# Altium schematic symbol library CAP.SchLib: 90 symbols
Pins are listed as number, name and electrical type; pins without a type are passive.

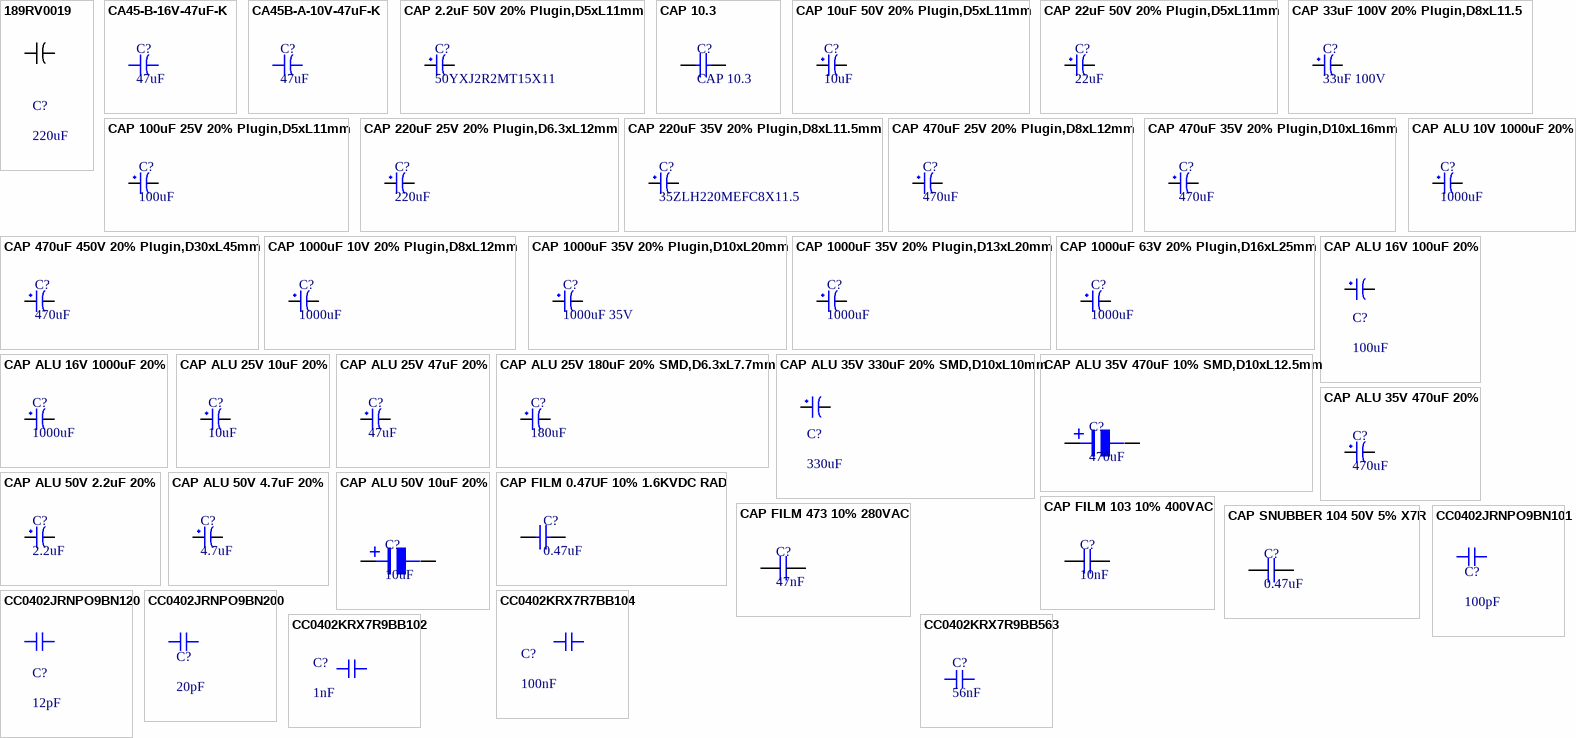
[diagram p0: symbols 189RV0019 to CC0402KRX7R9BB563]

## 189RV0019
designator C?, comment 220uF
220uF 35V 600mA@100KHz 160mΩ@100KHz ±20% SMD,D6.3xL7.7mm Aluminum Electrolytic Capacitors - SMD ROHS; Manufacturer: KNSCHA; Mfr.Part #: 189RV0019; Package: SMD,D6.3xL7.7mm; LCSC Part #: C7471881
footprint SMD,D6.3xL7.7mm
pins: 1, 2

## CA45-B-16V-47uF-K
designator C?, comment 47uF
47uF 16V 3Ω@100kHz ±10% CASE-B-3528-19(mm) Tantalum Capacitors ROHS; Manufacturer: CEC(Zhenhua XinYun); Mfr.Part #: CA45-B-16V-47uF-K; Package: CASE-B-3528-19(mm); LCSC Part 3: C136751
footprint CASE-B-3528-19(mm)
pins: 1, 2

## CA45B-A-10V-47uF-K
designator C?, comment 47uF
47uF 10V ±10% CASE-A-3216-16(mm) Tantalum Capacitors ROHS; Manufacturer: CEC(Zhenhua XinYun); Mfr.Part #: CA45B-A-10V-47uF-K; Package: CASE-A-3216-16(mm); LCSC Part 3: C41415735
footprint CASE-A-3216-18(mm)
pins: 1, 2

## CAP 2.2uF 50V 20% Plugin,D5xL11mm
designator C?, comment 50YXJ2R2MT15X11
2.2uF 50V ±20% Plugin,D5xL11mm Aluminum Electrolytic Capacitors - Leaded ROHS; Chung_Loai: Cắm; Don_Vi: Con; So_Chan: 2; Ten_Linh_Kien: Tụ Hóa 1uF 50V 5x11MM; Ma_Hang: MH001355; Kieu_Chan: *
footprint CAP-PLUGIN,D5xL11mm
pins: 1, 2

## CAP 10.3
designator C?
Chung_Loai: Dán; Don_Vi: Con; So_Chan: 2; Ten_Linh_Kien: Tụ 0603 101-0.1nF 10% 50V; Ma_Hang: MH004565; Kieu_Chan: *
footprint CAP-10.3
pins: 1, 2

## CAP 10uF 50V 20% Plugin,D5xL11mm
designator C?, comment 10uF
10uF 50V ±20% Plugin,D5xL11mm Aluminum Electrolytic Capacitors - Leaded ROHS; Manufacturer: AISHI(Aihua Group); Mfr.Part #: ERS1HM100D11OT; Name: CAP 10uF 50V 20% Plugin,D5xL11mm; So_Chan_Cam: 2; So_Chan_Dan: 0; Package: Plugin,D5xL11mm
footprint PLUGIN,D5xL11mm
pins: 1, 2

## CAP 22uF 50V 20% Plugin,D5xL11mm
designator C?, comment 22uF
22uF 50V ±20% Plugin,D5xL11mm Aluminum Electrolytic Capacitors - Leaded ROHS; Manufacturer: Rubycon; Mfr.Part #: 50YXJ22M5X11; Name: CAP 22uF 50V 20% Plugin,D5xL11mm; So_Chan_Cam: 2; So_Chan_Dan: 0; Package: Plugin,D5xL11mm
footprint PLUGIN,D5xL11mm
pins: 1, 2

## CAP 33uF 100V 20% Plugin,D8xL11.5
designator C?, comment 33uF 100V
33uF 100V ±20% 140mA@120Hz Plugin,D8xL11.5mm Aluminum Electrolytic Capacitors - Leaded ROHS; Manufacturer: Rubycon; Mfr.Part #: 100PX33MEFC8X11.5; Name: CAP 33uF 100V 20% Plugin,D8xL11.5; So_Chan_Dan: 0; So_Chan_Cam: 2; Package: Plugin,D8xL11.5mm
footprint Plugin,D8xL11.5mm
pins: 1, 2

## CAP 100uF 25V 20% Plugin,D5xL11mm
designator C?, comment 100uF
100uF 25V ±20% Plugin,D5xL11mm Aluminum Electrolytic Capacitors - Leaded ROHS; Manufacturer: Rubycon; Mfr.Part #: 25YXJ100MT15X11; Name: CAP 100uF 25V 20% Plugin,D5xL11mm; So_Chan_Cam: 2; So_Chan_Dan: 0; Package: Plugin,D5xL11mm
footprint PLUGIN,D5xL11mm
pins: 1, 2

## CAP 220uF 25V 20% Plugin,D6.3xL12mm
designator C?, comment 220uF
220uF 25V ±20% Plugin,D6.3xL12mm Aluminum Electrolytic Capacitors - Leaded ROHS; Manufacturer: AISHI(Aihua Group); Mfr.Part #: EGH1EM221E12OT; Name: CAP 220uF 25V 20% Plugin,D6.3xL12mm; So_Chan_Cam: 2; So_Chan_Dan: 0; Package: Plugin,D6.3xL12mm
footprint PLUGIN,D6.3xL12mm
pins: 1, 2

## CAP 220uF 35V 20% Plugin,D8xL11.5mm
designator C?, comment 35ZLH220MEFC8X11.5
220uF 35V 472.5mA@120Hz ±20% Plugin,D8xL11.5mm Aluminum Electrolytic Capacitors - Leaded ROHS; Chung_Loai: Cắm; Don_Vi: Con; So_Chan: 2; Ten_Linh_Kien: Tụ Hóa 1uF 50V 5x11MM; Ma_Hang: MH001355; Kieu_Chan: *
footprint Plugin,D8xL11.5mm
pins: 1, 2

## CAP 470uF 25V 20% Plugin,D8xL12mm
designator C?, comment 470uF
470uF 25V ±20% Plugin,D8xL12mm Aluminum Electrolytic Capacitors - Leaded ROHS; Manufacturer: CX(Dongguan Chengxing Elec); Mfr.Part #: KM477M025F12RR0VH2FP0; Name: CAP 470uF 25V 20% Plugin,D8xL12mm; So_Chan_Dan: 0; So_Chan_Cam: 2; Package: Plugin,D8xL12mm
footprint Plugin,D8xL12mm
pins: 1, 2

## CAP 470uF 35V 20% Plugin,D10xL16mm
designator C?, comment 470uF
470uF 35V ±20% Plugin,D10xL16mm Aluminum Electrolytic Capacitors - Leaded ROHS; Manufacturer: Rubycon; Mfr.Part #: 35YXJ470M10x16; Name: CAP 470uF 35V 20% Plugin,D10xL16mm; So_Chan_Dan: 0; So_Chan_Cam: 2; Package: Plugin,D10xL16mm
footprint Plugin,D10xL16mm
pins: 1, 2

## CAP 470uF 450V 20% Plugin,D30xL45mm
designator C?, comment 470uF
470uF 450V 2.05A@120Hz ±20% 10mm Plugin,D30xL45mm Horn-Type Electrolytic Capacitors ROHS; Manufacturer: Rubycon; Mfr.Part #: 450MXH470MEFCSN30X45; Name: CAP 470uF 450V 20% Plugin,D30xL45mm; So_Chan_Dan: 0; So_Chan_Cam: 2; Package: Plugin,D30xL45mm
footprint Plugin,D30xL45mm
pins: 1, 2

## CAP 1000uF 10V 20% Plugin,D8xL12mm
designator C?, comment 1000uF
1000uF 10V ±20% 600mA@10kHz Plugin,D8xL12mm Aluminum Electrolytic Capacitors - Leaded ROHS; Manufacturer: Rubycon; Mfr.Part #: 10PX1000MEFC8X11.5; Name: CAP 1000uF 10V 20% Plugin,D8xL12mm; So_Chan_Dan: 0; So_Chan_Cam: 2; Package: Plugin,D8xL12mm
footprint Plugin,D8xL12mm
footprint Plugin,D8xL12mm-SIDE
pins: 1, 2

## CAP 1000uF 35V 20% Plugin,D10xL20mm
designator C?, comment 1000uF 35V
1000uF 35V ±20% 865mA@120Hz Plugin,D10xL20mm Aluminum Electrolytic Capacitors - Leaded ROHS; Manufacturer: Rubycon; Mfr.Part #: 35PX1000MEFC10X20; Name: CAP 1000uF 35V 20% Plugin,D10xL20mm; So_Chan_Dan: 0; So_Chan_Cam: 2; Package: Plugin,D10xL20mm
footprint Plugin,D10xL20mm
footprint Plugin,D13xL26mm
pins: 1, 2

## CAP 1000uF 35V 20% Plugin,D13xL20mm
designator C?, comment 1000uF
1000uF 35V ±20% Plugin,D13xL20mm Aluminum Electrolytic Capacitors - Leaded ROHS; Manufacturer: CX(Dongguan Chengxing Elec); Mfr.Part #: KM108M035J20RR0VH2FP0; Name: CAP 1000uF 35V 20% Plugin,D13xL20mm; So_Chan_Dan: 0; So_Chan_Cam: 2; Package: Plugin,D13xL20mm
footprint Plugin,D13xL20mm
footprint Plugin,D13xL20mm-SIDE
pins: 1, 2

## CAP 1000uF 63V 20% Plugin,D16xL25mm
designator C?, comment 1000uF
1000uF 63V ±20% Plugin,D16xL25mm Aluminum Electrolytic Capacitors - Leaded ROHS; Manufacturer: Rubycon; Mfr.Part #: 63YXJ1000M16X25; Name: CAP 1000uF 63V 20% Plugin,D16xL25mm; So_Chan_Dan: 0; So_Chan_Cam: 2; Package: Plugin,D16xL25mm
footprint PLUGIN,D16xL25mm
pins: 1, 2

## CAP ALU 10V 1000uF 20%
designator C?, comment 1000uF
1000uF 10V ±20 SMD,D10xL10.5mm Aluminum Electrolytic Capacitors - SMD ROHS; Manufacturer: Changzhou Huawei Elec; Mfr.Part #: VT1A102MG105000CE0; Name: CAP ALU 10V 1000uF 20%; So_Chan_Dan: 2; So_Chan_Cam: 0; Package: SMD,D10xL10.5mm
footprint SMD,D10xL10.5mm
pins: 1, 2

## CAP ALU 16V 100uF 20%
designator C?, comment 100uF
100uF 16V 125mA@120Hz ±20% SMD,D6.3xL6.1mm Aluminum Electrolytic Capacitors - SMD ROHS; Manufacturer: Rubycon; Mfr.Part #: 16TZV100M6.3X6.1; Name: CAP ALU 16V 100uF 20%; So_Chan_Dan: 2; So_Chan_Cam: 0; Package: SMD,D6.3xL6.1mm
footprint SMD,D6.3xL6.1mm
pins: 1, 2

## CAP ALU 16V 1000uF 20%
designator C?, comment 1000uF
1000uF 16V 300mA@120kHz ±20% SMD,D10xL10.5mm Aluminum Electrolytic Capacitors - SMD ROHS; Manufacturer: KNSCHA; Mfr.Part #: XT1000UF16V90RV0100; Name: CAP ALU 16V 1000uF 20%; So_Chan_Dan: 2; So_Chan_Cam: 0; Package: SMD,D10xL10.5mm
footprint SMD,D10xL10.5mm
pins: 1, 2

## CAP ALU 25V 10uF 20%
designator C?, comment 10uF
10uF 25V 25mA@120Hz ±20% SMD,D4xL5.5mm Aluminum Electrolytic Capacitors - SMD ROHS; Manufacturer: Rubycon; Mfr.Part #: 25SEV10M4X5.5; Name: CAP ALU 25V 10uF 20%; So_Chan_Dan: 2; So_Chan_Cam: 0; Package: SMD,D4xL5.5mm
footprint SMD,D4xL5.5mm
pins: 1, 2

## CAP ALU 25V 47uF 20%
designator C?, comment 47uF
47uF 25V 60mA@120Hz ±20% SMD,D6.3xL5.5mm Aluminum Electrolytic Capacitors - SMD ROHS; Manufacturer: Rubycon; Mfr.Part #: 25SEV47M6.3X5.5; Name: CAP ALU 25V 10uF 20%; So_Chan_Dan: 2; So_Chan_Cam: 0; Package: SMD,D6.3xL5.5mm
footprint SMD,D6.3xL5.5mm
pins: 1, 2

## CAP ALU 25V 180uF 20% SMD,D6.3xL7.7mm
designator C?, comment 180uF
180uF 25V 280mA@100kHz 340mΩ@100kHz ±20% SMD,D6.3xL7.7mm Aluminum Electrolytic Capacitors - SMD ROHS; Manufacturer: PANASONIC; Mfr.Part #: EEEFKE181XSP; Name: CAP ALU 25V 180uF 20% SMD,D6.3xL7.7mm; So_Chan_Dan: 0; So_Chan_Cam: 2; Package: SMD,D6.3xL7.7mm
footprint SMD,D6.3xL7.7mm
pins: 1, 2

## CAP ALU 35V 330uF 20% SMD,D10xL10mm
designator C?, comment 330uF
330uF 35V ±20% SMD,D10xL10mm Aluminum Electrolytic Capacitors - SMD ROHS; Manufacturer: Lelon; Mfr.Part #: VZH331M1VTR-1010; Name: CAP ALU 35V 330uF 20% SMD,D10xL10mm; So_Chan_Dan: 2; So_Chan_Cam: 0; Package: SMD,D10xL10mm; Tolerance: 20%
footprint SMD,D10xL10.5mm
pins: 1, 2

## CAP ALU 35V 470uF 10% SMD,D10xL12.5mm
designator C?, comment 470uF
470uF 35V ±10% SMD,D10xL12.5mm Aluminum Electrolytic Capacitors - SMD ROHS; Manufacturer: Lelon; Mfr.Part #: VEJ471K1VTR-1012; Name: CAP ALU 35V 470uF 10% SMD,D10xL12.5mm; So_Chan_Dan: 2; So_Chan_Cam: 0; Package: SMD,D10xL12.5mm; Tolerance: 10%
footprint SMD,D10xL12.5mm
pins: 1, 2
text: +

## CAP ALU 35V 470uF 20%
designator C?, comment 470uF
470uF 35V 310mA@120Hz ±20% SMD,D10xL10.5mm Aluminum Electrolytic Capacitors - SMD ROHS; Manufacturer: KNSCHA; Mfr.Part #: XT470UF35V90RV0080; Name: CAP ALU 35V 470uF 20%; So_Chan_Dan: 2; So_Chan_Cam: 0; Package: SMD,D10xL10.5mm
footprint SMD,D10xL10.5mm
pins: 1, 2

## CAP ALU 50V 2.2uF 20%
designator C?, comment 2.2uF
2.2uF 50V 11mA@120Hz ±20% SMD,D4xL6.1mm Aluminum Electrolytic Capacitors - SMD ROHS; Manufacturer: Rubycon; Mfr.Part #: 50SGV2R2M4X6.1; Name: CAP ALU 50V 2.2uF 20%; So_Chan_Dan: 2; So_Chan_Cam: 0; Package: SMD,D4xL6.1mm
footprint SMD,D4xL6.1mm
pins: 1, 2

## CAP ALU 50V 4.7uF 20%
designator C?, comment 4.7uF
4.7uF 50V 18mA@120Hz ±20% SMD,D4xL5.5mm Aluminum Electrolytic Capacitors - SMD ROHS; Manufacturer: Rubycon; Mfr.Part #: 50SEV4R7M4X5.5; Name: CAP ALU 50V 4.7uF 20%; So_Chan_Dan: 2; So_Chan_Cam: 0; Package: SMD,D4xL5.5mm
footprint SMD,D4xL5.5mm
footprint Plugin,D20xL35mm
pins: 1, 2

## CAP ALU 50V 10uF 20%
designator C?, comment 10uF
10uF 50V 30mA@120Hz ±20% SMD,D5xL5.5mm Aluminum Electrolytic Capacitors - SMD ROHS; Manufacturer: Rubycon; Mfr.Part #: 50SEV10M5X5.5; Name: CAP ALU 50V 10uF 20%; So_Chan_Dan: 2; So_Chan_Cam: 0; Package: SMD,D5xL5.5mm
footprint SMD,D5xL5.5mm
pins: 1, 2
text: +

## CAP FILM 0.47UF 10% 1.6KVDC RAD
designator C?, comment 0.47uF
0.47 µF Film Capacitor 650V 1600V (1.6kV) Polypropylene (PP), Metallized Radial; Manufacturer: WIMA; Mfr.Part #: MKP1T034707F00KSSD; Name: CAP FILM 0.47UF 10% 1.6KVDC RAD; So_Chan_Dan: 0; So_Chan_Cam: 2; Package: Plugin,L41.5xW19xH32mm
footprint Plugin,L41.5xW19xH32mm
pins: 1, 2

## CAP FILM 103 10% 400VAC
designator C?, comment 10nF
10000 pF Film Capacitor 400V 1000V (1kV) Polypropylene (PP), Metallized Radial; Manufacturer: WIMA; Mfr.Part #: MKP4O121003F00KSSD; So_Chan_Dan: 2; Name: CAP FILM 103 10% 400VAC; So_Chan_Cam: 0; Tolarance: 10%; Package: Plugin
footprint MKP4O121003F00
pins: 1, 2

## CAP FILM 473 10% 280VAC
designator C?, comment 47nF
0.047 µF Film Capacitor 280V 630V Polypropylene (PP), Metallized Radial; Manufacturer: WIMA; Mfr.Part #: MKP4J024702F00KSSD; So_Chan_Dan: 2; Name: CAP FILM 473 10% 280VAC; So_Chan_Cam: 0; Tolarance: 10%; Package: Plugin
footprint MKP4O121003F00
pins: 1, 2

## CAP SNUBBER 104 50V 5% X7R
designator C?, comment 0.47uF
50V 100nF X7R ±5% 0603 Multilayer Ceramic Capacitors MLCC - SMD/SMT ROHS; Manufacturer: YAGEO; Mfr.Part #: CC0603JRX7R9BB104; So_Chan_Dan: 2; Name: CAP 0603 104 50V 5% X7R; So_Chan_Cam: 0; Package: 0603; Volt Rated: 50V; Temperature Coefficient: X7R; Tolarance: 5%
footprint PLUGIN,W33xL56mm (FKP1 0.47uF 1.6kV)
pins: 1, 2

## CC0402JRNPO9BN101
designator C?, comment 100pF
50V 100pF NP0 ±5% 0402 Ceramic Capacitors ROHS; Manufacturer: YAGEO; Mfr.Part #: CC0402JRNPO9BN101; Package: 0402; LCSC Part #: C106200
footprint CAP-0402
pins: 1, 2

## CC0402JRNPO9BN120
designator C?, comment 12pF
50V 12pF NP0 ±5% 0402 Multilayer Ceramic Capacitors MLCC - SMD/SMT ROHS; Manufacturer: YAGEO; Mfr.Part #: CC0402JRNPO9BN120; Package: 0402; LCSC Part #: C106201
footprint CAP-0402
pins: 1, 2

## CC0402JRNPO9BN200
designator C?, comment 20pF
50V 20pF NP0 ±5% 0402 Multilayer Ceramic Capacitors MLCC - SMD/SMT ROHS; Manufacturer: YAGEO; Mfr.Part #: CC0402JRNPO9BN200; Package: 0402; LCSC Part #: C107000
footprint CAP-0402
pins: 1, 2

## CC0402KRX7R7BB104
designator C?, comment 100nF
16V 100nF X7R ±10% 0402 Multilayer Ceramic Capacitors MLCC - SMD/SMT ROHS; Manufacturer: YAGEO; Mfr.Part #: CC0402KRX7R7BB104; Package: 0402; LCSC Part #: C60474
footprint CAP-0402
pins: 1, 2

## CC0402KRX7R9BB102
designator C?, comment 1nF
50V 1nF X7R ±10% 0402 Ceramic Capacitors ROHS; Manufacturer: YAGEO; Mfr.Part #: CC0402KRX7R9BB102; Package: 0402; LCSC Part #: C106205
footprint CAP-0402
pins: 1, 2

## CC0402KRX7R9BB563
designator C?, comment 56nF
50V 56nF X7R ±10% 0402 Multilayer Ceramic Capacitors MLCC - SMD/SMT ROHS; Manufacturer: YAGEO; Mfr.Part #: CC0402KRX7R9BB563; Package: 0402; LCSC Part #: C5182419
footprint CAP-0402
pins: 1, 2

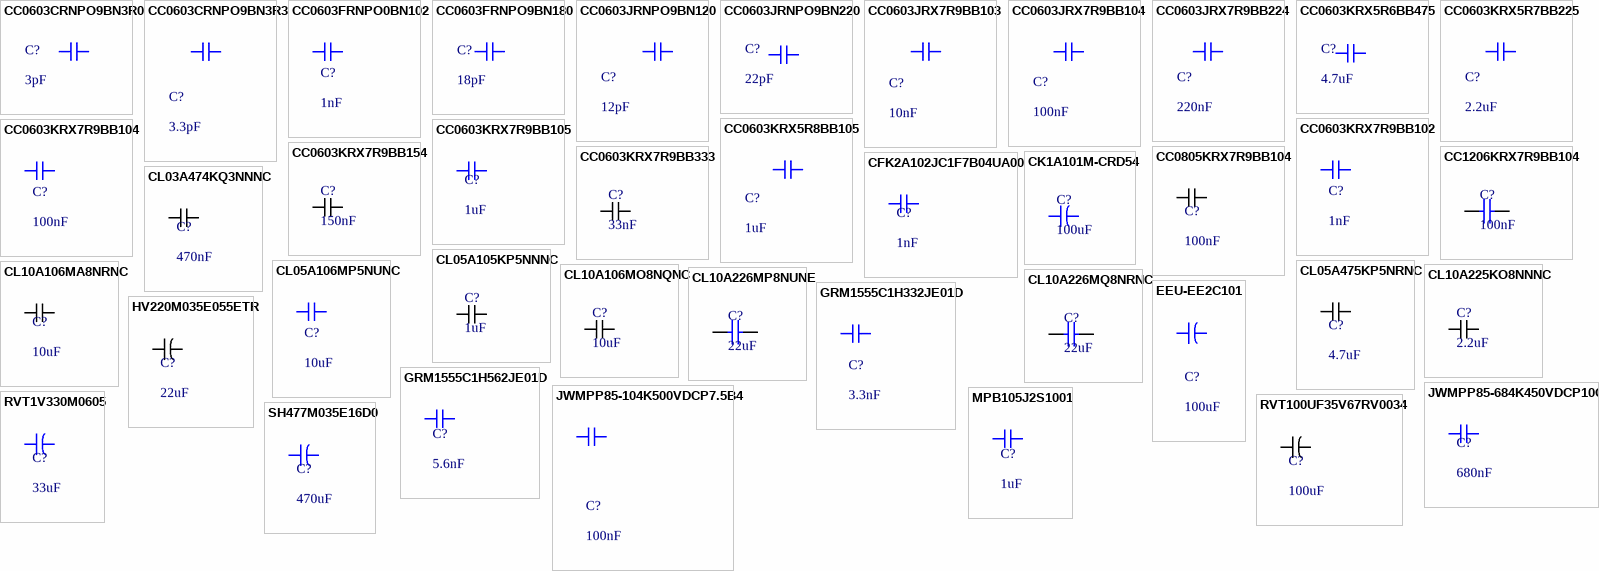
[diagram p1: symbols CC0603CRNPO9BN3R0 to SH477M035E16D0]

## CC0603CRNPO9BN3R0
designator C?, comment 3pF
50V 3pF NP0 0603 Multilayer Ceramic Capacitors MLCC - SMD/SMT ROHS; Manufacturer: YAGEO; Mfr.Part #: CC0603JRNPO9BN120; Package: 0603
footprint CAP-0603
pins: 1, 2

## CC0603CRNPO9BN3R3
designator C?, comment 3.3pF
50V 3.3pF NP0 0603 Multilayer Ceramic Capacitors MLCC - SMD/SMT ROHS; Manufacturer: YAGEO; Mfr.Part #: CC0603CRNPO9BN3R3; Package: 0603
footprint CAP-0603
pins: 1, 2

## CC0603FRNPO0BN102
designator C?, comment 1nF
100V 1nF NP0 ±1% 0603 Multilayer Ceramic Capacitors MLCC - SMD/SMT ROHS; Manufacturer: YAGEO; Mfr.Part #: CC0603FRNPO0BN102; Package: 0603; LCSC Part #: C576765
footprint CAP-0603
pins: 1, 2

## CC0603FRNPO9BN180
designator C?, comment 18pF
50V 18pF NP0 ±1% 0603 Multilayer Ceramic Capacitors MLCC - SMD/SMT ROHS; Manufacturer: YAGEO; Mfr.Part #: CC0603FRNPO9BN180; Package: 0603; LCSC Part #: C527046
footprint CAP-0603
pins: 1, 2

## CC0603JRNPO9BN120
designator C?, comment 12pF
50V 12pF NP0 ±5% 0603 Multilayer Ceramic Capacitors MLCC - SMD/SMT ROHS; Manufacturer: YAGEO; Mfr.Part #: CC0603JRNPO9BN120; Package: 0603; LCSC Part #: C107034
footprint CAP-0603
pins: 1, 2

## CC0603JRNPO9BN220
designator C?, comment 22pF
50V 22pF NP0 ±5% 0603 Multilayer Ceramic Capacitors MLCC - SMD/SMT ROHS; Manufacturer: YAGEO; Mfr.Part #: CC0603JRNPO9BN220; Package: 0603; LCSC Part #: C105620
footprint CAP-0603
pins: 1, 2

## CC0603JRX7R9BB103
designator C?, comment 10nF
50V 10nF X7R ±5% 0603 Multilayer Ceramic Capacitors MLCC - SMD/SMT ROHS; Manufacturer: YAGEO; Mfr.Part #: CC0603JRX7R9BB103; Package: 0603; LCSC Part #: C115056
footprint CAP-0603
pins: 1, 2

## CC0603JRX7R9BB104
designator C?, comment 100nF
50V 100nF X7R ±5% 0603 Multilayer Ceramic Capacitors MLCC - SMD/SMT ROHS; Manufacturer: YAGEO; Mfr.Part #: CC0603JRX7R9BB104; Package: 0603; LCSC Part #: C14664
footprint CAP-0603
pins: 1, 2

## CC0603JRX7R9BB224
designator C?, comment 220nF
X7R 50V 220nF ±5% 0603 Multilayer Ceramic Capacitors MLCC - SMD/SMT ROHS; Manufacturer: YAGEO; Mfr.Part #: CC0603JRX7R9BB224; Package: 0603; LCSC Part #: C519575
footprint CAP-0603
pins: 1, 2

## CC0603KRX5R6BB475
designator C?, comment 4.7uF
10V 4.7uF X5R ±10% 0603 Multilayer Ceramic Capacitors MLCC - SMD/SMT ROHS; Manufacturer: YAGEO; Mfr.Part #: CC0603KRX5R6BB475; Package: 0603; LCSC Part #: C109456
footprint CAP-0603
pins: 1, 2

## CC0603KRX5R7BB225
designator C?, comment 2.2uF
16V 2.2uF X5R ±10% 0603 Multilayer Ceramic Capacitors MLCC - SMD/SMT ROHS; Manufacturer: YAGEO; Mfr.Part #: CC0603KRX5R7BB225; Package: 0603; LCSC Part #: C106853
footprint CAP-0603
pins: 1, 2

## CC0603KRX5R8BB105
designator C?, comment 1uF
25V 1uF X5R ±10% 0603 Multilayer Ceramic Capacitors MLCC - SMD/SMT ROHS; Manufacturer: YAGEO; Mfr.Part #: CC0603KRX5R8BB105; Package: 0603; LCSC Part #: C14664
footprint CAP-0603
pins: 1, 2

## CC0603KRX7R9BB102
designator C?, comment 1nF
50V 1nF X7R ±10% 0603 Multilayer Ceramic Capacitors MLCC - SMD/SMT ROHS; Manufacturer: YAGEO; Mfr.Part #: CC0603KRX7R9BB102; Package: 0603; LCSC Part #: C100040
footprint CAP-0603
pins: 1, 2

## CC0603KRX7R9BB104
designator C?, comment 100nF
50V 100nF X7R ±10% 0603 Multilayer Ceramic Capacitors MLCC - SMD/SMT ROHS; Manufacturer: YAGEO; Mfr.Part #: CC0603KRX7R9BB104; Package: 0603; LCSC Part #: C14663
footprint CAP-0603
pins: 1, 2

## CC0603KRX7R9BB105
designator C?, comment 1uF
50V 1uF X7R ±10% 0603 Multilayer Ceramic Capacitors MLCC - SMD/SMT ROHS; Manufacturer: YAGEO; Mfr.Part #: CC0603KRX7R9BB105; Package: 0603; LCSC Part #: C559769
footprint CAP-0603
pins: 1, 2

## CC0603KRX7R9BB154
designator C?, comment 150nF
50V 150nF X7R ±10% 0603 Multilayer Ceramic Capacitors MLCC - SMD/SMT ROHS; Manufacturer: YAGEO; Mfr.Part #: CC0603KRX7R9BB154; Package: 0603; LCSC Part #: C513735
footprint CAP-0603
pins: 1, 2

## CC0603KRX7R9BB333
designator C?, comment 33nF
50V 33nF X7R ±10% 0603 Multilayer Ceramic Capacitors MLCC - SMD/SMT ROHS; Manufacturer: YAGEO; Mfr.Part #: CC0603KRX7R9BB333; Package: 0603
footprint CAP-0603
pins: 1, 2

## CC0805KRX7R9BB104
designator C?, comment 100nF
50V 100nF X7R ±10% 0805 Multilayer Ceramic Capacitors MLCC - SMD/SMT ROHS; Manufacturer: YAGEO; Mfr.Part #: CC0805KRX7R9BB104; Package: 0603; LCSC Part #: C49678
footprint CAP-0805
pins: 1, 2

## CC1206KRX7R9BB104
designator C?, comment 100nF
50V 100nF X7R ±10% 1206 Multilayer Ceramic Capacitors MLCC - SMD/SMT ROHS; Manufacturer: YAGEO; Mfr.Part #: CC1206KKX7R8BB475; Package: 1206
footprint CAP-1206
pins: 1, 2

## CFK2A102JC1F7B04UA00
designator C?, comment 1nF
±5% 100V 1nF Through Hole,P=5.08mm Film Capacitors ROHS; Manufacturer: Dersonic; Mfr.Part #: CFK2A102JC1F7B04UA00; Package: Through Hole,P=5.08mm; LCSC Part #: C22439655
footprint Through Hole, P=5.08mm, L=7.2mm, W=2.5mm, H=6.5mm
pins: 1, 2

## CK1A101M-CRD54
designator C?, comment 100uF
100uF 10V 40mA@120Hz ±20% SMD,D5xL5.4mm Aluminum Electrolytic Capacitors - SMD ROHS; Manufacturer: ROQANG; Mfr.Part #: CK1A101M-CRD54; Package: SMD,D5xL5.4mm; LCSC Part 3: C3001231
footprint SMD,D5xL5.5mm
pins: 1, 2

## CL03A474KQ3NNNC
designator C?, comment 470nF
6.3V 470nF X5R ±10% 0201 Multilayer Ceramic Capacitors MLCC - SMD/SMT ROHS; Manufacturer: Samsung Electro-Mechanics; Mfr.Part #: CL03A474KQ3NNNC; Package: 0603; LCSC Part #: C318543
footprint CAP-0603
pins: 1, 2

## CL05A105KP5NNNC
designator C?, comment 1uF
10V 1uF X5R ±10% 0402 Multilayer Ceramic Capacitors MLCC - SMD/SMT ROHS; Manufacturer: Samsung Electro-Mechanics; Mfr.Part #: CL05A105KP5NNNC; Package: 0402; LCSC Part #: C14445
footprint CAP-0402
pins: 1, 2

## CL05A106MP5NUNC
designator C?, comment 10uF
10V 10uF X5R ±20% 0402 Multilayer Ceramic Capacitors MLCC - SMD/SMT ROHS; Manufacturer: Samsung Electro-Mechanics; Mfr.Part #: CL05A106MP5NUNC; Package: 0402; LCSC Part #: C315248
footprint CAP-0402
pins: 1, 2

## CL05A475KP5NRNC
designator C?, comment 4.7uF
10V 4.7uF X5R ±10% 0402 Multilayer Ceramic Capacitors MLCC - SMD/SMT ROHS; Manufacturer: Samsung Electro-Mechanics; Mfr.Part #: CL05A475KP5NRNC; Package: 0402; LCSC Part #: C368809
footprint CAP-0402
pins: 1, 2

## CL10A106MA8NRNC
designator C?, comment 10uF
25V 10uF X5R ±20% 0603 Multilayer Ceramic Capacitors MLCC - SMD/SMT ROHS; Manufacturer: Samsung Electro-Mechanics; Mfr.Part #: CL10A106MA8NRNC; Package: 0603; LCSC Part #: C96446
footprint CAP-0603
pins: 1, 2

## CL10A106MO8NQNC
designator C?, comment 10uF
16V 10uF X5R ±20% 0603 Multilayer Ceramic Capacitors MLCC - SMD/SMT ROHS; Manufacturer: Samsung Electro-Mechanics; Mfr.Part #: CL10A106MO8NQNC; Package: 0603; LCSC Part #: C92487
footprint CAP-0603
pins: 1, 2

## CL10A225KO8NNNC
designator C?, comment 2.2uF
16V 2.2uF X5R ±10% 0603 Multilayer Ceramic Capacitors MLCC - SMD/SMT ROHS; Manufacturer: Samsung Electro-Mechanics; Mfr.Part #: CL10A225KO8NNNC; Package: 0603; LCSC Part #: C23630
footprint CAP-0603
pins: 1, 2

## CL10A226MP8NUNE
designator C?, comment 22uF
10V 22uF X5R ±20% 0603 Multilayer Ceramic Capacitors MLCC - SMD/SMT ROHS; Manufacturer: Samsung Electro-Mechanics; Mfr.Part #: CL10A226MP8NUNE; Package: 0603
footprint CAP-0603
pins: 1, 2

## CL10A226MQ8NRNC
designator C?, comment 22uF
6.3V 22uF X5R ±20% 0603 Multilayer Ceramic Capacitors MLCC - SMD/SMT ROHS; Manufacturer: Samsung Electro-Mechanics; Name: CL10A226MQ8NRNC; So_Chan_Dan: 2; Package: 0603; Mfr.Part #: CL10A226MQ8NRNC
footprint CAP-0603
pins: 1, 2

## EEU-EE2C101
designator C?, comment 100uF
100 µF 160 V Aluminum Electrolytic Capacitors Radial, Can 10000 Hrs @ 105°C; Manufacturer: Panasonic Electronic Components; Mfr.Part #: EEU-EE2C101; Package: Plugin,D12.5xL27mm; DigiKey Part Number: P13622-ND
footprint CAP-0603
pins: 1, 2

## GRM1555C1H332JE01D
designator C?, comment 3.3nF
50V 3.3nF C0G ±5% 0402 Multilayer Ceramic Capacitors MLCC - SMD/SMT ROHS; Manufacturer: muRata; Mfr.Part #: GRM1555C1H332JE01D; Package: 0402; LCSC Part #: C1518207
footprint CAP-0402
pins: 1, 2

## GRM1555C1H562JE01D
designator C?, comment 5.6nF
50V 5.6nF C0G ±5% 0402 Ceramic Capacitors ROHS; Manufacturer: muRata; Mfr.Part #: GRM1555C1H562JE01D; Package: 0402; LCSC Part #: C2976066
footprint CAP-0402
pins: 1, 2

## HV220M035E055ETR
designator C?, comment 22uF
22uF 35V ±20% SMD,D6.3xL5.5mm Aluminum Electrolytic Capacitors - SMD ROHS; Manufacturer: Capxon International Elec; Mfr.Part #: HV220M035E055ETR; Package: SMD,D6.3xL5.5mm
footprint SMD,D6.3xL5.5mm
pins: 1, 2

## JWMPP85-104K500VDCP7.5B4
designator C?, comment 100nF
±10% 500V 100nF -40℃~+110℃ Metallized Polypropylene Through Hole,P=7.5mm Film Capacitors ROHS; Manufacturer: JURCC; Mfr.Part #: JWMPP85-104K500VDCP7.5B4; Package: Through Hole,P=7.5mm; LCSC Part #: C47279063
footprint Through Hole, P=7.5mm, L=9.5mm, W=5mm, H=11mm
pins: 1, 2

## JWMPP85-684K450VDCP10C5
designator C?, comment 680nF
±10% 450V 680nF -40℃~+110℃ Metallized Polypropylene Through Hole,P=10mm Film Capacitors ROHS; Manufacturer: JURCC; Mfr.Part #: JWMPP85-684K450VDCP10C5; Package: Through Hole,P=10mm; LCSC Part #: C47279135
footprint Through Hole, P=10mm, L=12mm, W=7.6mm, H=13.5mm
pins: 1, 2

## MPB105J2S1001
designator C?, comment 1uF
1uF -40℃~+100℃ ±5% Through Hole,P=10mm Film Capacitors ROHS; Manufacturer: KYET; Mfr.Part #: MPB105J2S1001; Package: Through Hole,P=10mm; LCSC Part #: C2928853
footprint Through Hole, P=10mm, L=12.5mm, W=7.6mm, H=17mm
pins: 1, 2

## RVT1V330M0605
designator C?, comment 33uF
33uF 35V 41mA@120Hz ±20% SMD,D6.3xL5.4mm Aluminum Electrolytic Capacitors - SMD ROHS; Manufacturer: ROQANG; Mfr.Part #: RVT1V330M0605; Package: SMD,D6.3xL5.4mm; LCSC Part #: C72508
footprint SMD,D6.3xL5.5mm
pins: 1, 2

## RVT100UF35V67RV0034
designator C?, comment 100uF
100uF 35V 87mA@120kHz ±20% SMD,D6.3xL7.7mm Aluminum Electrolytic Capacitors - SMD ROHS; Manufacturer: KNSCHA; Mfr.Part #: RVT100UF35V67RV0034; Package: SMD,D6.3xL7.7mm
footprint SMD,D6.3xL7.7mm
pins: 1, 2

## SH477M035E16D0
designator C?, comment 470uF
35V 470uF ±20% 2.9A@100kHz Through Hole,D6.3xL16mm Polymer Aluminum Capacitors ROHS; Manufacturer: SHENGYANG; Mfr.Part #: SH477M035E16D0; Package: Through Hole,D6.3xL16mm; LCSC Part #: C44606523
footprint PLUGIN,D6.3xL16mm
pins: 1, 2

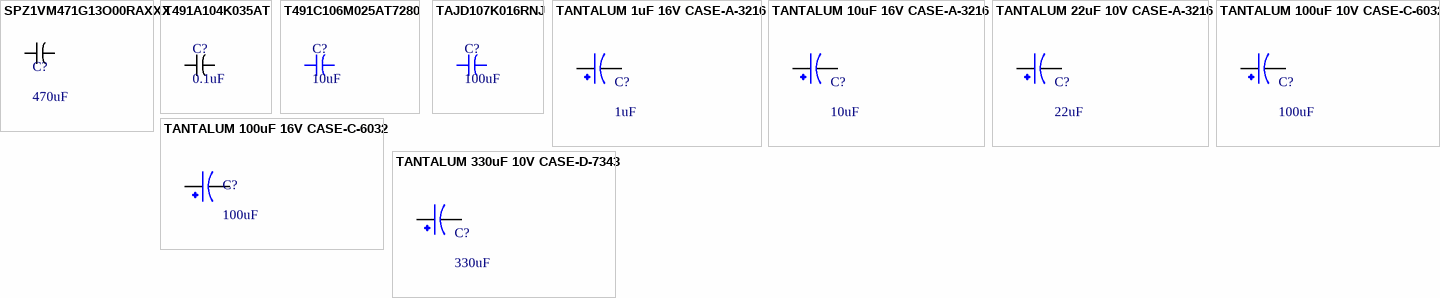
[diagram p2: symbols SPZ1VM471G13O00RAXXX to TANTALUM 330uF 10V CASE-D-7343]

## SPZ1VM471G13O00RAXXX
designator C?, comment 470uF
35V 470uF ±20% Through Hole,D10xL13mm Polymer Aluminum Capacitors ROHS; Manufacturer: AISHI; Mfr.Part #: SPZ1VM471G13O00RAXXX; Package: Through Hole,D10xL13mm; LCSC Part #: C2691847
footprint SMD,D6.3xL5.5mm
pins: 1, 2

## T491A104K035AT
designator C?, comment 0.1uF
100nF 35V 20Ω@100kHz ±10% CASE-A-3216-18(mm) Tantalum Capacitors ROHS / Higher voltage ratings and tighter tolerance product including ESR may be substituted within the same size at KEMET's option. Voltage substitution will be marked with the higher voltage rating. Substitutions can include better than series.; Mfr.Part #: T491A104K035AT; Manufacturer: KEMET; Package: CASE-A-3216-18(mm); LCSC Part #: C122257
footprint CASE-A-3216-18(mm)
pins: 1, 2

## T491C106M025AT7280
designator C?, comment 10uF
10 µF Molded Tantalum Capacitors 25 V 2312 (6032 Metric) 1.5Ohm; Mfr.Part #: T491C106M025AT7280; Manufacturer: KEMET; Package: 6032; DigiKey Part Number: 399-10160-2-ND
footprint CASE-C-6032
pins: 1, 2

## TAJD107K016RNJ
designator C?, comment 100uF
100uF 16V 600mΩ@100kHz ±10% CASE-D-7343 Tantalum Capacitors ROHS; Mfr.Part #: TAJD107K016RNJ; Manufacturer: Kyocera AVX; Package: CASE-D-7343; LCSC Part #: C7223
footprint CASE-D-7343
pins: 1, 2

## TANTALUM 1uF 16V CASE-A-3216
designator C?, comment 1uF
1uF 16V 11Ω ±10% CASE-A-3216-18(mm) Tantalum Capacitors ROHS; Mfr.Part #: TAJA105K016RNJ; Manufacturer: Kyocera AVX; Name: TANTALUM 1uF 16V CASE-A-3216; So_Chan_Dan: 2; So_Chan_Cam: 0; Package: CASE-A-3216-18(mm)
footprint CASE-A-3216-18(mm)
footprint CASE-A-3216-18(mm) - 1
pins: 1, 2

## TANTALUM 10uF 16V CASE-A-3216
designator C?, comment 10uF
10uF 16V 3Ω@100kHz ±10% CASE-A-3216-18(mm) Tantalum Capacitors ROHS; Mfr.Part #: TAJA106K016RNJ; Manufacturer: Kyocera AVX; Name: TANTALUM 10uF 16V CASE-A-3216; So_Chan_Dan: 2; So_Chan_Cam: 0; Package: CASE-A-3216-18(mm)
footprint CASE-A-3216-18(mm)
footprint CASE-A-3216-18(mm) - 1
pins: 1, 2

## TANTALUM 22uF 10V CASE-A-3216
designator C?, comment 22uF
22uF 10V 3Ω@100kHz ±10% CASE-A-3216-18(mm) Tantalum Capacitors ROHS; Mfr.Part #: TAJA226K010RNJ; Manufacturer: Kyocera AVX; Name: TANTALUM 10uF 16V CASE-A-3216; So_Chan_Dan: 2; So_Chan_Cam: 0; Package: CASE-A-3216-18(mm)
footprint CASE-A-3216-18(mm)
footprint CASE-A-3216-18(mm) - 1
pins: 1, 2

## TANTALUM 100uF 10V CASE-C-6032
designator C?, comment 100uF
100uF 10V 1.2Ω@100kHz ±10% CASE-C-6032 Tantalum Capacitors ROHS; Mfr.Part #: TAJC107K010RNJ; Manufacturer: Kyocera AVX; Name: TANTALUM 100uF 10V CASE-C-6032; So_Chan_Dan: 2; So_Chan_Cam: 0; Package: CASE-C-6032
footprint CASE-C-6032
pins: 1, 2

## TANTALUM 100uF 16V CASE-C-6032
designator C?, comment 100uF
100uF 16V 1Ω@100kHz ±10% CASE-C-6032 Tantalum Capacitors ROHS; Manufacturer: Kyocera AVX; Mfr.Part #: TAJC107K016RNJ; Name: TANTALUM 100uF 16V CASE-C-6032; So_Chan_Cam: 0; So_Chan_Dan: 2; Package: CASE-C-6032
footprint CASE-C-6032
pins: 1, 2

## TANTALUM 330uF 10V CASE-D-7343
designator C?, comment 330uF
330uF 10V 900mΩ@100kHz ±10% CASE-D-7343 Tantalum Capacitors ROHS; Mfr.Part #: TAJD337K010RNJ; Manufacturer: Kyocera AVX; Name: TANTALUM 330uF 10V CASE-D-7343; So_Chan_Dan: 2; So_Chan_Cam: 0; Package: CASE-D-7343
footprint CASE-D-7343
pins: 1, 2